# EAGLE library part MC33926_CARRIER (library arm)
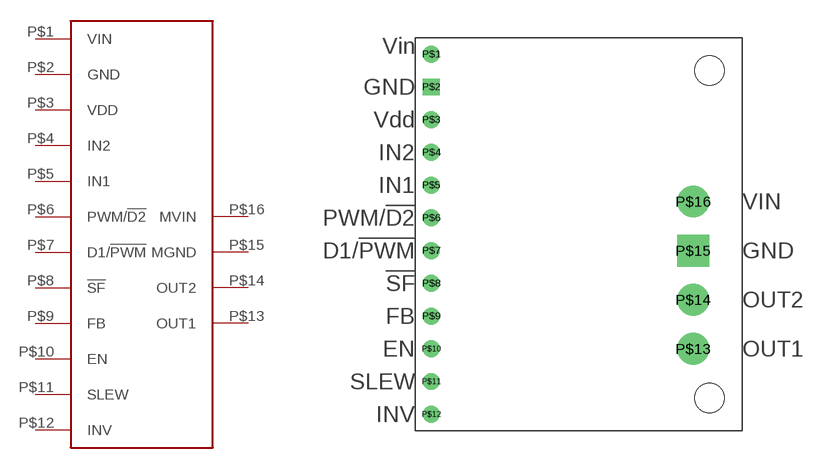
[diagram p1: symbol with the pads of MC33926_CARRIER; footprint MC33926_CARRIER]

Designator prefix -

## MC33926_CARRIER  [MC33926_CARRIER]
P$1  VIN
P$2  GND
P$3  VDD
P$4  IN2
P$5  IN1
P$6  PWM/!D2
P$7  D1/!PWM
P$8  !SF
P$9  FB
P$10  EN
P$11  SLEW
P$12  INV
P$13  OUT1
P$14  OUT2
P$15  MGND
P$16  MVIN

## Footprint MC33926_CARRIER (pad centres in mm)
drill 0.8: P$1 -11.43,13.97; P$3 -11.43,8.89; P$4 -11.43,6.35; P$5 -11.43,3.81; P$6 -11.43,1.27; P$7 -11.43,-1.27; P$8 -11.43,-3.81; P$9 -11.43,-6.35; P$10 -11.43,-8.89; P$11 -11.43,-11.43; P$12 -11.43,-13.97
drill 0.8 square: P$2 -11.43,11.43
drill 1.651: P$13 8.89,-8.89; P$14 8.89,-5.08; P$16 8.89,2.54
drill 1.651 square: P$15 8.89,-1.27
hole 2.286 at 10.16,12.7
hole 2.286 at 10.16,-12.7